# EAGLE library part CONNECTOR-37 (library HyTechDevices)
Mini-Fit Junior connector 12 pole Source: http://www.molex.com
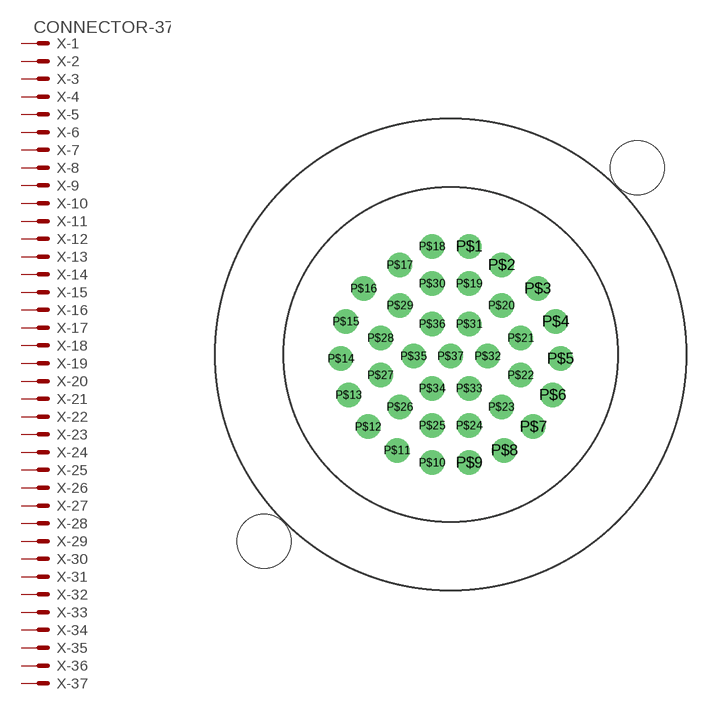
[diagram p94: symbol with the pads of AUTOSPORT_14-35; footprint AUTOSPORT_14-35]

Designator prefix X; gates -1=MV -2=M -3=M -4=M -5=M -6=M -7=M -8=M -9=M -10=M -11=M -12=M -13=M -14=M -15=M -16=M -17=M -18=M -19=M -20=M -21=M -22=M -23=M -24=M -25=M -26=M -27=M -28=M -29=M -30=M -31=M -32=M -33=M -34=M -35=M -36=M -37=M

## CONNECTOR-37  [AUTOSPORT_14-35]
P$1  -1:S  pas
P$2  -2:S  pas
P$3  -3:S  pas
P$4  -4:S  pas
P$5  -5:S  pas
P$6  -6:S  pas
P$7  -7:S  pas
P$8  -8:S  pas
P$9  -9:S  pas
P$10  -10:S  pas
P$11  -11:S  pas
P$12  -12:S  pas
P$13  -13:S  pas
P$14  -14:S  pas
P$15  -15:S  pas
P$16  -16:S  pas
P$17  -17:S  pas
P$18  -18:S  pas
P$19  -19:S  pas
P$20  -20:S  pas
P$21  -21:S  pas
P$22  -22:S  pas
P$23  -23:S  pas
P$24  -24:S  pas
P$25  -25:S  pas
P$26  -26:S  pas
P$27  -27:S  pas
P$28  -28:S  pas
P$29  -29:S  pas
P$30  -30:S  pas
P$31  -31:S  pas
P$32  -32:S  pas
P$33  -33:S  pas
P$34  -34:S  pas
P$35  -35:S  pas
P$36  -36:S  pas
P$37  -37:S  pas

## Footprint AUTOSPORT_14-35 (pad centres in mm)
drill 1: P$1 1.143,6.655; P$2 3.124,5.512; P$3 5.359,4.064; P$4 6.452,2.032; P$5 6.756,-0.254; P$6 6.274,-2.489; P$7 5.08,-4.445; P$8 3.302,-5.893; P$9 1.143,-6.655; P$10 -1.143,-6.655; P$11 -3.302,-5.893; P$12 -5.08,-4.445; P$13 -6.274,-2.489; P$14 -6.756,-0.254; P$15 -6.452,2.032; P$16 -5.359,4.064; P$17 -3.124,5.512; P$18 -1.143,6.655; P$19 1.143,4.369; P$20 3.124,3.023; P$21 4.318,1.016; P$22 4.318,-1.27; P$23 3.124,-3.226; P$24 1.143,-4.369; P$25 -1.143,-4.369; P$26 -3.124,-3.226; P$27 -4.318,-1.27; P$28 -4.318,1.016; P$29 -3.124,3.023; P$30 -1.143,4.369; P$31 1.143,1.88; P$32 2.286,-0.102; P$33 1.143,-2.083; P$34 -1.143,-2.083; P$35 -2.286,-0.102; P$36 -1.143,1.88; P$37 0,-0.102
hole 3.3 at -11.491,-11.491
hole 3.3 at 11.491,11.491